# Altium schematic symbol library 0878311020.SCHLIB: 1 symbol
Pins are listed as number, name and electrical type; pins without a type are passive.

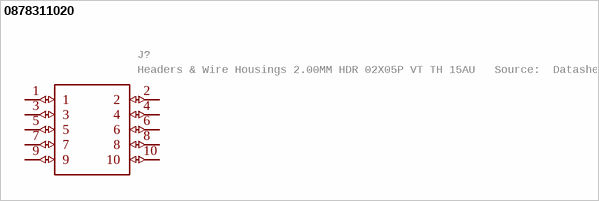
[diagram p0: symbol 0878311020]

## 0878311020
designator J?, comment Headers & Wire Housings 2.00MM HDR 02X05P VT TH 15AU   Source:  Datasheet
Manufacturer_Name: Molex; GateName_1: G$1; SymbolName_1: 0878311020; LibraryName: 0878311020; DeviceSetName: 0878311020; Package: SHDR10W55P200_2X5_1265X630X640; Manufacturer_Part_Number: 0878311020; Mouser_Part_Number: N/A; Mouser_Price-Stock: https://www.mouser.co.uk/ProductDetail/Molex/0878311020?qs=PBcRNPEHKsp4n%252By2XJ%252BEjQ%3D%3D; Arrow_Part_Number: 0878311020; Arrow_Price-Stock: https://www.arrow.com/en/products/0878311020/molex; Description: Headers & Wire Housings 2.00MM HDR 02X05P VT TH 15AU; Height: 6.4mm
footprint SHDR10W55P200_2X5_1265X630X640
pins: 1 (io), 2 (io), 3 (io), 4 (io), 5 (io), 6 (io), 7 (io), 8 (io), 9 (io), 10 (io)